# Altium footprint library footprints.PcbLib: 29 footprints (part 1 of 2)
Each footprint in its own frame and in the unit in brackets; x right, y up, seen from the top. Pads: shape width x height; smd on the part's side, far side on the other; paste and mask are expansions set on the pad; w line width, h text height; cw(c..) or ccw(c..) is an arc to the next point about the centre after c.
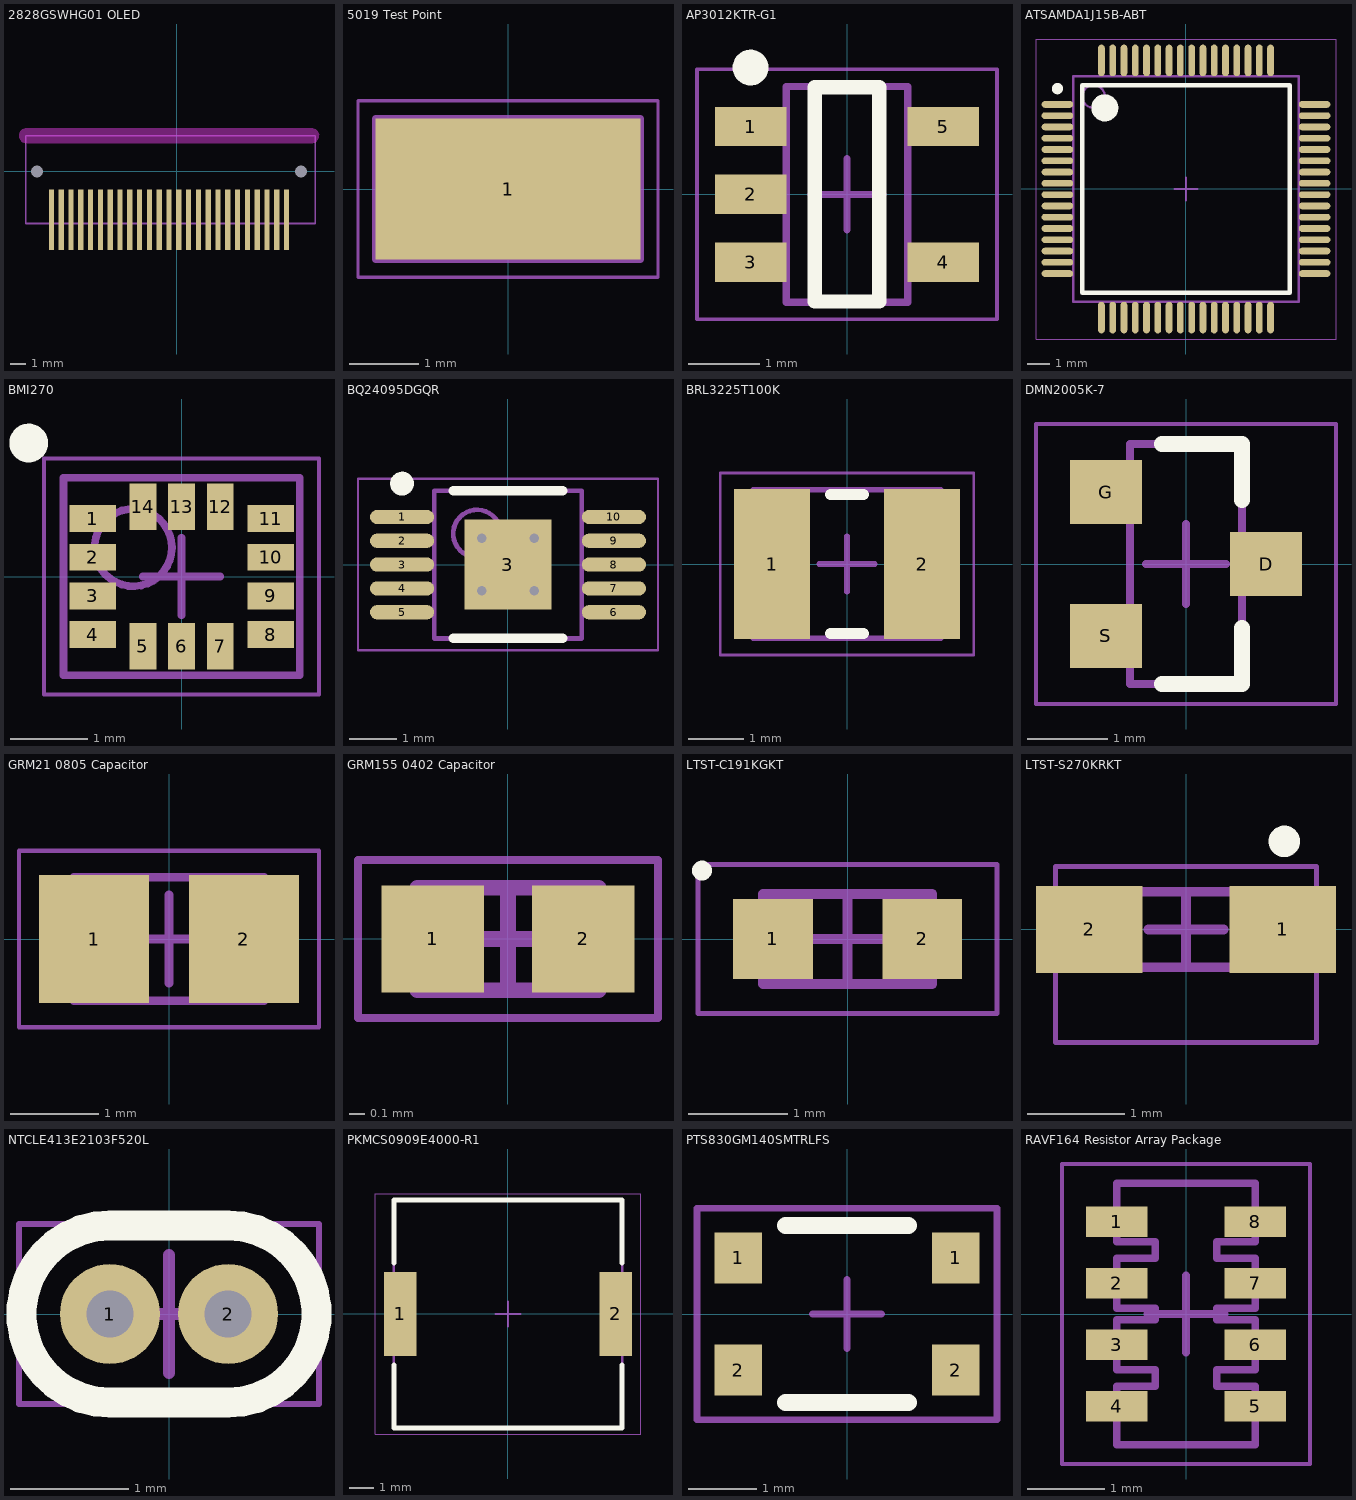
[diagram p0: the footprints below, top view; thin cyan lines are the x and y axes]

## 2828GSWHG01 OLED [mm] "1.5 in. 2828GSWHG01 OLED display module"
pads (27):
  rect 0.35x4 smd paste-2539.97: 1(-8.3,-3.2) 2(-7.65,-3.2) 3(-7,-3.2) 4(-6.35,-3.2) 5(-5.7,-3.2) 6(-5.05,-3.2) 7(-4.4,-3.2) 8(-3.75,-3.2) 9(-3.1,-3.2) 10(-2.45,-3.2) 11(-1.8,-3.2) 12(-1.15,-3.2) 13(-0.5,-3.2) 14(0.15,-3.2) 15(0.8,-3.2) 16(1.45,-3.2) 17(2.1,-3.2) 18(2.75,-3.2) 19(3.4,-3.2) 20(4.05,-3.2) 21(4.7,-3.2) 22(5.35,-3.2) 23(6,-3.2) 24(6.65,-3.2) 25(7.3,-3.2)
  round 0 hole 0.8 unplated: ALIGN(-9.25,0) ALIGN(8.25,0)
Keep-Out Layer:
  board cut-out: -9.95,1.869 -10.049,1.869 -10.233,1.945 -10.374,2.086 -10.45,2.27 -10.45,2.369 -10.45,2.468 -10.374,2.652 -10.233,2.793 -10.049,2.869 -9.95,2.869 8.95,2.869 9.049,2.869 9.233,2.793 9.374,2.652 9.45,2.468 9.45,2.369 9.45,2.27 9.374,2.086 9.233,1.945 9.049,1.869 8.95,1.869
Mechanical 15:
  lines w0.1: -10.004,-3.454 9.204,-3.454 9.204,2.369 -10.004,2.369 -10.004,-3.454
3D body "1.5in OLED QG-2828GSWHG01.STEP": height 0.07, standoff -2.21, extent -16.9,-34.631 16.9,2.363

## 5019 Test Point [mil] "PC Test Point, Miniature Phosphor Bronze Silver Plating Surface Mount Mounting Type"
height 90.16
pads (1):
  rect 150x80 smd: 1(0,0)
Mechanical 13:
  lines w3.94: -75,-40 75,-40 75,40 -75,40 -75,-40
Mechanical 15:
  lines w1.97: -85,-50 -85,50 85,50 85,-50 -85,-50
  lines w3.94: -19.69,0 19.68,0 ; 0,-19.68 0,19.68
3D body "keystone-PN5019.STEP": height 90, standoff 0, extent -75,-40 75,40

## AP3012KTR-G1 [mm] "SOT23, 5-Leads, Body 2.92x2.80mm, Pitch 0.95mm, IPC Medium Density"
height 1.45
pads (5):
  rect 1x0.55 smd: 1(-1.35,0.95) 2(-1.35,0) 3(-1.35,-0.95) 4(1.35,-0.95) 5(1.35,0.95)
Top Overlay:
  circle w0.25: c-1.35,1.775 r0.125
  lines w0.2: -0.45,-1.5 -0.45,1.5 0.45,1.5 0.45,-1.5 -0.45,-1.5
Mechanical 13:
  lines w0.1: -0.85,-1.51 0.85,-1.51 0.85,1.51 -0.85,1.51 -0.85,-1.51
Mechanical 15:
  lines w0.05: -2.1,-1.75 2.1,-1.75 2.1,1.75 -2.1,1.75 -2.1,-1.75
  lines w0.1: -0.5,0 0.5,0 ; 0,-0.5 0,0.5
3D body "SOT95P280X145-5N.step": height 1.45, standoff 0, extent -1.475,-1.51 1.475,1.51

## ATSAMDA1J15B-ABT [mm] "TSQFP, 64-Leads, Body 10.00x10.00mm, Pitch 0.50mm, IPC Medium Density"
height 1.2
pads (64):
  oval 1.4x0.3 smd: 1(-5.7,3.75) 2(-5.7,3.25) 3(-5.7,2.75) 4(-5.7,2.25) 5(-5.7,1.75) 6(-5.7,1.25) 7(-5.7,0.75) 8(-5.7,0.25) 9(-5.7,-0.25) 10(-5.7,-0.75) 11(-5.7,-1.25) 12(-5.7,-1.75) 13(-5.7,-2.25) 14(-5.7,-2.75) 15(-5.7,-3.25) 16(-5.7,-3.75) 33(5.7,-3.75) 34(5.7,-3.25) 35(5.7,-2.75) 36(5.7,-2.25) 37(5.7,-1.75) 38(5.7,-1.25) 39(5.7,-0.75) 40(5.7,-0.25) 41(5.7,0.25) 42(5.7,0.75) 43(5.7,1.25) 44(5.7,1.75) 45(5.7,2.25) 46(5.7,2.75) 47(5.7,3.25) 48(5.7,3.75)
  oval 0.3x1.4 smd: 17(-3.75,-5.7) 18(-3.25,-5.7) 19(-2.75,-5.7) 20(-2.25,-5.7) 21(-1.75,-5.7) 22(-1.25,-5.7) 23(-0.75,-5.7) 24(-0.25,-5.7) 25(0.25,-5.7) 26(0.75,-5.7) 27(1.25,-5.7) 28(1.75,-5.7) 29(2.25,-5.7) 30(2.75,-5.7) 31(3.25,-5.7) 32(3.75,-5.7) 49(3.75,5.7) 50(3.25,5.7) 51(2.75,5.7) 52(2.25,5.7) 53(1.75,5.7) 54(1.25,5.7) 55(0.75,5.7) 56(0.25,5.7) 57(-0.25,5.7) 58(-0.75,5.7) 59(-1.25,5.7) 60(-1.75,5.7) 61(-2.25,5.7) 62(-2.75,5.7) 63(-3.25,5.7) 64(-3.75,5.7)
Top Overlay:
  circle w0.6: c-3.6,3.6 r0.3
  circle w0.25: c-5.7,4.45 r0.125
  lines w0.2: -4.6,-4.6 4.6,-4.6 4.6,4.6 -4.6,4.6 -4.6,-4.6
Mechanical 13:
  circle w0.1: c-4.1,4.1 r0.5
  lines w0.1: -5,-5 5,-5 5,5 -5,5 -5,-5
Mechanical 15:
  lines w0.05: -6.65,-6.65 6.65,-6.65 6.65,6.65 -6.65,6.65 -6.65,-6.65
  lines w0.1: -0.5,0 0.5,0 ; 0,-0.5 0,0.5
3D body "TSQFP50P1200X1200X120-64N.step": height 1.2, standoff 0, extent -6,-6 6,6

## BMI270 [mm] "PQFN, 14-Leads, Body 3.00x2.50mm, Pitch 0.50mm, IPC Medium Density"
height 0.87
pads (14):
  rect 0.6x0.348 smd: 1(-1.15,0.75) 2(-1.15,0.25) 3(-1.15,-0.25) 4(-1.15,-0.75) 8(1.15,-0.75) 9(1.15,-0.25) 10(1.15,0.25) 11(1.15,0.75)
  rect 0.348x0.6 smd: 5(-0.5,-0.9) 6(0,-0.9) 7(0.5,-0.9) 12(0.5,0.9) 13(0,0.9) 14(-0.5,0.9)
Top Overlay:
  circle w0.25: c-1.975,1.725 r0.125
Mechanical 13:
  circle w0.1: c-0.625,0.375 r0.5
  lines w0.1: -1.525,-1.275 -1.525,1.275 1.525,1.275 1.525,-1.275 -1.525,-1.275
Mechanical 15:
  lines w0.05: -1.775,-1.525 -1.775,1.525 1.775,1.525 1.775,-1.525 -1.775,-1.525
  lines w0.1: -0.5,0 0.5,0 ; 0,-0.5 0,0.5
3D body "PQFN50P300X250X87-14N.step": height 0.87, standoff 0, extent -1.525,-1.275 1.525,1.275

## BQ24095DGQR [mm] "Charger IC Lithium Ion/Polymer 10-HVSSOP"
pads (11):
  oval 1.35x0.3 smd: 1(-2.225,1) 2(-2.225,0.5) 3(-2.225,0) 4(-2.225,-0.5) 5(-2.225,-1) 6(2.225,-1) 7(2.225,-0.5) 8(2.225,0) 9(2.225,0.5) 10(2.225,1)
  rect 1.83x1.89 smd: 3(0,0)
via 0.55,-0.55 diameter 0.4 hole 0.2
via -0.55,-0.55 diameter 0.4 hole 0.2
via 0.55,0.55 diameter 0.4 hole 0.2
via -0.55,0.55 diameter 0.4 hole 0.2
Top Overlay:
  circle w0.25: c-2.225,1.7 r0.125
  lines w0.2: -1.15,-1.55 1.15,-1.55 ; -1.15,1.55 1.15,1.55
Mechanical 13:
  circle w0.1: c-0.65,0.65 r0.5
  lines w0.1: -1.55,-1.55 1.55,-1.55 1.55,1.55 -1.55,1.55 -1.55,-1.55
Mechanical 15:
  lines w0.05: -3.15,-1.8 3.15,-1.8 3.15,1.8 -3.15,1.8 -3.15,-1.8
  lines w0.1: -0.5,0 0.5,0 ; 0,-0.5 0,0.5
3D body "TSSOP50P490X110_HS-11N.step": height 1.1, standoff 0, extent -2.45,-1.55 2.45,1.55

## BRL3225T100K [mm] "Chip Inductor, 2-Leads, Body 3.20x2.50mm, IPC Medium Density"
height 1.7
pads (2):
  rect 1.38x2.72 smd: 1(-1.36,0) 2(1.36,0)
Top Overlay:
  lines w0.2: -0.3,-1.26 0.3,-1.26 ; -0.3,1.26 0.3,1.26
Mechanical 13:
  lines w0.1: -1.7,-1.35 -1.7,1.35 1.7,1.35 1.7,-1.35 -1.7,-1.35
Mechanical 15:
  lines w0.05: -2.3,-1.65 -2.3,1.65 2.3,1.65 2.3,-1.65 -2.3,-1.65
  lines w0.1: -0.5,0 0.5,0 ; 0,-0.5 0,0.5
3D body "INDC3225X17N.step": height 1.7, standoff 0, extent -1.7,-1.35 1.7,1.35

## DMN2005K-7 [mm] "SOT23, 3-Leads, Body 2.90x2.40mm, Pitch 0.90mm, IPC Medium Density"
height 1.1
pads (3):
  rect 0.9x0.8 smd: D(1,0) G(-1,0.9) S(-1,-0.9)
Top Overlay:
  lines w0.2: -0.3,-1.5 0.7,-1.5 0.7,-0.8 ; -0.3,1.5 0.7,1.5 0.7,0.8
Mechanical 13:
  lines w0.1: -0.7,-1.5 -0.7,1.5 0.7,1.5 0.7,-1.5 -0.7,-1.5
Mechanical 15:
  lines w0.05: -1.875,-1.75 -1.875,1.75 1.875,1.75 1.875,-1.75 -1.875,-1.75
  lines w0.1: -0.5,0 0.5,0 ; 0,-0.5 0,0.5
3D body "SOT90P240X110-3N.step": height 1.1, standoff 0, extent -1.25,-1.5 1.25,1.5

## GRM21 0805 Capacitor [mm] "Chip Capacitor, 2-Leads, Body 2.00x1.25mm, IPC Medium Density"
height 1.4
pads (2):
  rect 1.25x1.45 smd: 1(-0.85,0) 2(0.85,0)
Mechanical 13:
  lines w0.1: -1.075,-0.7 1.075,-0.7 1.075,0.7 -1.075,0.7 -1.075,-0.7
Mechanical 15:
  lines w0.05: -1.7,-1 1.7,-1 1.7,1 -1.7,1 -1.7,-1
  lines w0.1: -0.5,0 0.5,0 ; 0,-0.5 0,0.5
3D body "Chip2PinSM127P600-8N.step": height 1.4, standoff 0, extent -1.075,-0.7 1.075,0.7

## GRM155 0402 Capacitor [mm] "Chip Capacitor, 2-Leads, Body 1.00x0.50mm, IPC Medium Density"
height 0.65
pads (2):
  rect 0.65x0.68 smd: 1(-0.476,0) 2(0.476,0)
Mechanical 13:
  lines w0.1: -0.575,-0.325 0.575,-0.325 0.575,0.325 -0.575,0.325 -0.575,-0.325
Mechanical 15:
  lines w0.05: -0.95,-0.5 0.95,-0.5 0.95,0.5 -0.95,0.5 -0.95,-0.5
  lines w0.1: -0.325,0 0.325,0 ; 0,-0.325 0,0.325
3D body "GRM155R60J106ME15D.step": height 0.65, standoff 0, extent -0.575,-0.325 0.575,0.325

## LTST-C191KGKT [mm] "Green 571nm LED Indication - Discrete 2V 0603 (1608 Metric)"
height 0.65
pads (2):
  rect 0.8x0.8 smd: 1(-0.75,0) 2(0.75,0)
Top Overlay:
  circle w0.1: c-1.462,0.687 r0.05
Mechanical 13:
  lines w0.1: -0.85,-0.45 -0.85,0.45 0.85,0.45 0.85,-0.45 -0.85,-0.45
Mechanical 15:
  lines w0.05: -1.5,-0.75 -1.5,0.75 1.5,0.75 1.5,-0.75 -1.5,-0.75
  lines w0.1: -0.45,0 0.45,0 ; 0,-0.45 0,0.45
3D body "Chip2PinSM127P600-8N.step": height 0.65, standoff 0, extent -0.85,-0.45 0.85,0.45

## LTST-S270KRKT [mm] "Chip Diode, 2-Leads, Body 1.65x0.68mm, IPC Medium Density"
height 0.7
pads (2):
  rect 1.1x0.9 smd: 1(1,0) 2(-1,0)
Top Overlay:
  circle w0.2: c1.016,0.91 r0.062
Mechanical 13:
  lines w0.1: -0.875,-0.39 0.875,-0.39 0.875,0.39 -0.875,0.39 -0.875,-0.39
Mechanical 15:
  lines w0.05: -1.35,-1.17 1.35,-1.17 1.35,0.65 -1.35,0.65 -1.35,-1.17
  lines w0.1: -0.39,0 0.39,0 ; 0,-0.39 0,0.39
3D body "DIOC1607X07N.step": height 0.7, standoff 0, extent -0.875,-0.39 0.875,0.39
3D body: height 0.69, standoff 0.01, extent -0.612,-0.91 0.612,-0.292

## NTCLE413E2103F520L [mm] "NTC thermistor, 2-Leads, through-hole"
pads (2):
  round 0.847 hole 0.4: 1(-0.5,0) 2(0.5,0)
Top Overlay:
  lines w0.254: -0.5,-0.75 cw(c-0.5,0) -0.5,0.75 0.5,0.75 cw(c0.5,0) 0.5,-0.75 -0.5,-0.75
Mechanical 15:
  lines w0.05: -1.27,-0.762 -1.27,0.762 1.27,0.762 1.27,-0.762 -1.27,-0.762
  lines w0.1: -0.5,0 0.5,0 ; 0,-0.5 0,0.5

## PKMCS0909E4000-R1 [mm] "Piezoelectric Buzzer, 2-Leads, Body 9.00x9.00mm, IPC Medium Density"
height 1.9
pads (2):
  rect 1.3x3.4 smd: 1(-4.35,0) 2(4.35,0)
Top Overlay:
  lines w0.2: -4.6,-2.05 -4.6,-4.6 4.6,-4.6 4.6,-2.05 ; -4.6,2.05 -4.6,4.6 4.6,4.6 4.6,2.05
Mechanical 13:
  lines w0.1: -4.6,-4.6 -4.6,4.6 4.6,4.6 4.6,-4.6 -4.6,-4.6
Mechanical 15:
  lines w0.05: -5.35,-4.85 -5.35,4.85 5.35,4.85 5.35,-4.85 -5.35,-4.85
  lines w0.1: -0.5,0 0.5,0 ; 0,-0.5 0,0.5
3D body "INDM9090X19N.step": height 1.9, standoff 0, extent -4.82,-4.6 4.82,4.6

## PTS830GM140SMTRLFS [mm] "Tactile Switch SPST-NO Top Actuated Surface Mount"
pads (4):
  rect 0.7x0.75 smd: 1(-1.6,0.825) 1(1.6,0.825) 2(-1.6,-0.825) 2(1.6,-0.825)
Top Overlay:
  lines w0.254: -0.9,-1.3 0.9,-1.3 ; -0.9,1.3 0.9,1.3
Mechanical 15:
  lines w0.1: -0.508,0 0.508,0 ; 0,-0.508 0,0.508 ; -2.204,-1.554 2.204,-1.554 2.204,1.554 -2.204,1.554 -2.204,-1.554
3D body "PTS830GM140SMTRLFS.stp": height 1.35, standoff -0.05, extent -1.75,-1.3 1.75,1.3

## RAVF164 Resistor Array Package [mm] "Chip Array, ConvexS, 8-Leads, Pitch 0.80mm,  Body 3.20x1.60mm,  IPC Medium Density"
height 0.6
pads (8):
  rect 0.8x0.4 smd: 1(-0.9,1.2) 2(-0.9,0.4) 3(-0.9,-0.4) 4(-0.9,-1.2) 5(0.9,-1.2) 6(0.9,-0.4) 7(0.9,0.4) 8(0.9,1.2)
Mechanical 13:
  lines w0.1: -0.9,-1.7 0.9,-1.7 0.9,-0.94 0.4,-0.94 0.4,-0.725 0.9,-0.725 0.9,-0.075 0.4,-0.075 0.4,0.075 0.9,0.075 0.9,0.725 0.4,0.725 0.4,0.94 0.9,0.94 0.9,1.7 -0.9,1.7 -0.9,0.94 -0.4,0.94 -0.4,0.725 -0.9,0.725 -0.9,0.075 -0.4,0.075 -0.4,-0.075 -0.9,-0.075 -0.9,-0.725 -0.4,-0.725 -0.4,-0.94 -0.9,-0.94 -0.9,-1.7
Mechanical 15:
  lines w0.05: -1.61,-1.95 1.61,-1.95 1.61,1.95 -1.61,1.95 -1.61,-1.95
  lines w0.1: -0.5,0 0.5,0 ; 0,-0.5 0,0.5
3D body "RAVF164DJT4K70.step": height 0.6, standoff 0, extent -0.95,-1.7 0.95,1.7